# EAGLE library part MAX1556ETB (library max1556)
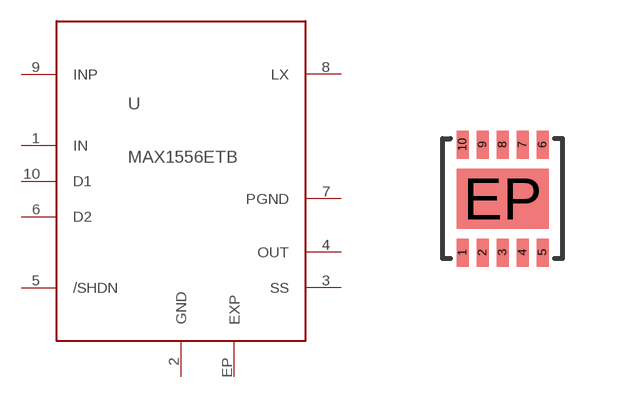
[diagram p0: symbol with the pads of DFN10-3X3; footprint DFN10-3X3]

Designator prefix -

## MAX1556ETB  [DFN10-3X3]
1  IN
2  GND
3  SS
4  OUT
5  /SHDN
6  D2
7  PGND
8  LX
9  INP
10  D1
EP  EXP

## Footprint DFN10-3X3 (pad centres in mm)
smd 0.3 x 0.7: 1 -1,-1.35; 2 -0.5,-1.35; 3 0,-1.35; 4 0.5,-1.35; 5 1,-1.35; 6 1,1.35; 7 0.5,1.35; 8 0,1.35; 9 -0.5,1.35; 10 -1,1.35
smd 2.3 x 1.5: EP 0,0